# Altium footprint library rohm-packages.PcbLib: 7 footprints
Each footprint in its own frame and in the unit in brackets; x right, y up, seen from the top. Pads: shape width x height; smd on the part's side, far side on the other; paste and mask are expansions set on the pad; w line width, h text height; cw(c..) or ccw(c..) is an arc to the next point about the centre after c.
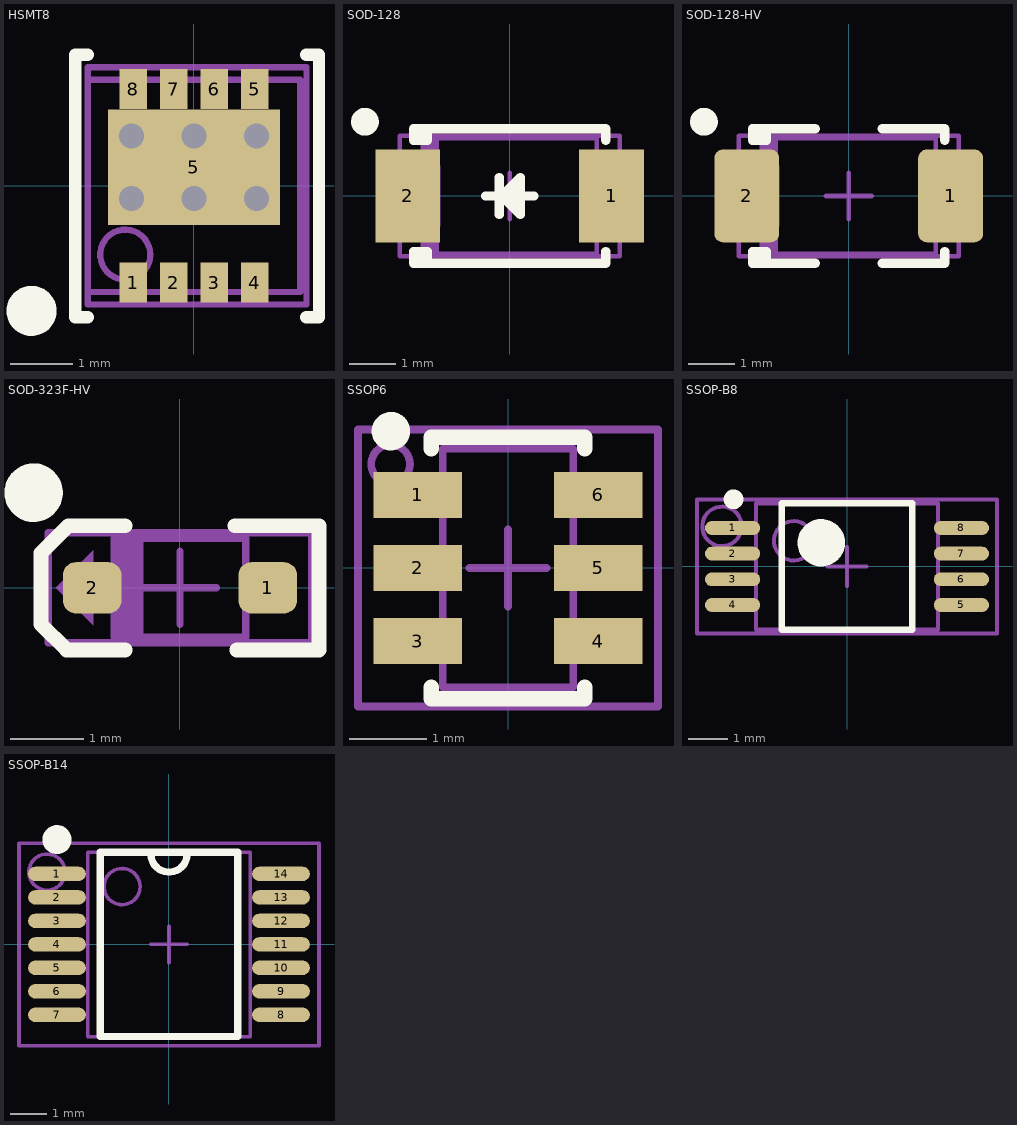
[diagram p0: the footprints below, top view; thin cyan lines are the x and y axes]

## HSMT8 [mm] "8-Leads, Body 3.0x3.0mm (max), Pitch 0.65mm, IPC Medium Density"
height 0.8
pads (9):
  rect 0.44x0.64 smd: 1(-0.975,-1.55) 2(-0.325,-1.55) 3(0.325,-1.55) 4(0.975,-1.55) 5(0.975,1.55) 6(0.325,1.55) 7(-0.325,1.55) 8(-0.975,1.55)
  rect 2.75x1.85 smd: 5(0,0.3)
via -1,0.8 diameter 0.7 hole 0.4
via -1,-0.2 diameter 0.7 hole 0.4
via 1,-0.2 diameter 0.7 hole 0.4
via 0,0.8 diameter 0.7 hole 0.4
via 1,0.8 diameter 0.7 hole 0.4
via 0,-0.2 diameter 0.7 hole 0.4
Top Overlay:
  circle w0.4: c-2.6,-2 r0.2
  lines w0.2: -1.7,-2.1 -1.9,-2.1 -1.9,2.1 -1.7,2.1 ; 1.8,-2.1 2,-2.1 2,2.1 1.8,2.1
Mechanical 13:
  lines w0.1: -0.5,0 0.5,0 ; 0,-0.5 0,0.5 ; -1.7,-1.9 -1.7,1.9 1.8,1.9 1.8,-1.9 -1.7,-1.9
Mechanical 15:
  circle w0.1: c-1.1,-1.1 r0.4
  lines w0.1: -1.7,-1.7 -1.7,1.7 1.7,1.7 1.7,-1.7 -1.7,-1.7
  text ".Designator" at -2.54,0 h0.5
3D body: height 0.96, standoff 0.01, extent -1.71,-1.7 1.71,1.7

## SOD-128 [mm] "Molded Diode, 2-Leads, Body 2.6x1.6mm, IPC Medium Density"
height 1.2
pads (2):
  rect 1.4x2 smd: 1(2.2,0) 2(-2.2,0)
Top Overlay:
  circle w0.3: c-3.125,1.6 r0.15
  lines w0.2: -2.075,-1.325 -1.775,-1.325 ; -2.075,1.325 -1.775,1.325 ; -1.775,-1.45 -1.775,-1.2 -2.075,-1.2 -2.075,-1.45 2.075,-1.45 2.075,-1.2 ; -1.775,1.45 -1.775,1.2 -2.075,1.2 -2.075,1.45 2.075,1.45 2.075,1.2 ; -0.525,0 -0.225,0 ; -0.225,-0.4 -0.225,0.4 ; 0.025,-0.15 0.025,0.15 ; 0.225,0 0.525,0 ; -0.175,0 0.225,0.4 0.225,-0.4 -0.175,0
Mechanical 13:
  rectangle: -1.888,-1.25 -1.525,1.225
  lines w0.1: -0.5,0 0.5,0 ; 0,-0.5 0,0.5 ; -1.875,-1.25 1.875,-1.25 ; -1.875,-1.25 -1.875,1.25 1.875,1.25 1.875,-1.25 ; -1.875,-1.25 1.875,-1.25
Mechanical 15:
  region: -1.5,-0.65 -2.15,0 -1.5,0.65
  lines w0.1: -2.375,-1.3 -2.375,1.3 2.375,1.3 2.375,-1.3 -2.375,-1.3
  text ".Designator" at -1,-0.3 h0.8
3D body: height 1.1, standoff -0.01, extent -2.5,-1.35 2.5,1.35

## SOD-128-HV [mm] "Molded Diode, 2-Leads, Body 2.6x1.6mm, IPC Medium Density"
height 1.2
pads (2):
  rrect25% 1.4x2 smd: 1(2.2,0) 2(-2.2,0)
Top Overlay:
  circle w0.3: c-3.125,1.6 r0.15
  lines w0.2: -2.075,-1.325 -1.775,-1.325 ; -2.075,1.325 -1.775,1.325 ; -1.775,-1.45 -1.775,-1.2 -2.075,-1.2 -2.075,-1.45 -0.725,-1.45 ; -1.775,1.45 -1.775,1.2 -2.075,1.2 -2.075,1.45 -0.725,1.45 ; 0.725,-1.45 2.075,-1.45 2.075,-1.2 ; 0.725,1.45 2.075,1.45 2.075,1.2
Mechanical 13:
  rectangle: -1.888,-1.25 -1.525,1.225
  lines w0.1: -0.5,0 0.5,0 ; 0,-0.5 0,0.5 ; -1.875,-1.25 1.875,-1.25 ; -1.875,-1.25 -1.875,1.25 1.875,1.25 1.875,-1.25 ; -1.875,-1.25 1.875,-1.25
Mechanical 15:
  region: -1.5,-0.65 -2.15,0 -1.5,0.65
  lines w0.1: -2.375,-1.3 2.375,-1.3 2.375,1.3 -2.375,1.3 -2.375,-1.3
  text ".Designator" at -1,-0.3 h0.8
3D body: height 1.1, standoff -0.01, extent -2.5,-1.35 2.5,1.35

## SOD-323F-HV [mm] "Molded Diode, 2-Leads, Flat - High Voltage"
height 0.7
pads (2):
  rrect50% 0.8x0.7 smd: 1(1.2,0) 2(-1.2,0)
Top Overlay:
  circle w0.4: c-2,1.3 r0.2
  lines w0.2: -0.75,-0.85 -1.55,-0.85 -1.9,-0.5 -1.9,0.475 -1.525,0.85 -0.75,0.85 ; 0.75,0.85 1.9,0.85 1.9,-0.85 0.775,-0.85
Mechanical 13:
  rectangle: -0.9,-0.675 -0.5,0.65
  lines w0.1: -0.5,0 0.5,0 ; 0,-0.5 0,0.5 ; -0.9,-0.675 -0.9,0.675 0.9,0.675 0.9,-0.675 -0.9,-0.675
Mechanical 15:
  region: -1.188,-0.512 -1.7,0 -1.187,0.513
  lines w0.1: -1.8,-0.75 -1.8,0.75 1.8,0.75 1.8,-0.75 -1.8,-0.75
  text ".Designator" at -1,-0.3 h0.8
3D body: height 0.79, standoff -0.08, extent -1.35,-0.675 1.35,0.675

## SSOP6 [mm] "SOT23, 6-Leads, Body 3.1x3.0mm (max), Pitch 0.95mm, IPC Medium Density"
height 1.1
pads (6):
  rect 1.15x0.6 smd: 1(-1.175,0.95) 2(-1.175,0) 3(-1.175,-0.95) 4(1.175,-0.95) 5(1.175,0) 6(1.175,0.95)
Top Overlay:
  circle w0.25: c-1.522,1.778 r0.125
  lines w0.2: -1,-1.55 -1,-1.7 1,-1.7 1,-1.55 ; -1,1.55 -1,1.7 1,1.7 1,1.55
Mechanical 13:
  lines w0.1: -0.5,0 0.5,0 ; 0,-0.5 0,0.5 ; -0.85,-1.55 -0.85,1.55 0.85,1.55 0.85,-1.55 -0.85,-1.55
Mechanical 15:
  circle w0.1: c-1.526,1.35 r0.251
  lines w0.1: -1.95,-1.8 1.95,-1.8 1.95,1.8 -1.95,1.8 -1.95,-1.8
  text ".Designator" at -0.2,1.275 h0.5
3D body: height 1, standoff 0, extent -1.17,-1.46 1.17,1.46

## SSOP-B8 [mm] "TSOP, 8-Leads, Body 3.2x4.6mm (max), Pitch 0.65mm, IPC High Density"
height 1.15
pads (8):
  oval 1.4x0.35 smd: 1(-2.9,0.975) 2(-2.9,0.325) 3(-2.9,-0.325) 4(-2.9,-0.975) 5(2.9,-0.975) 6(2.9,-0.325) 7(2.9,0.325) 8(2.9,0.975)
Top Overlay:
  circle w0.25: c-2.875,1.7 r0.125
  circle w0.6: c-0.65,0.6 r0.3
  lines w0.16: -1.65,-1.6 -1.65,1.6 1.65,1.6 1.65,-1.6 -1.65,-1.6
Mechanical 13:
  circle w0.1: c-1.35,0.65 r0.5
  lines w0.1: -0.5,0 0.5,0 ; 0,-0.5 0,0.5 ; -2.3,-1.6 -2.3,1.6 2.3,1.6 2.3,-1.6 -2.3,-1.6
Mechanical 15:
  circle w0.1: c-3.167,1.016 r0.5
  lines w0.1: -3.8,-1.7 -3.8,1.7 3.8,1.7 3.8,-1.7 -3.8,-1.7
  text ".Designator" at 1.241,-1.3 h0.5
3D body: height 1.24, standoff -0.01, extent -3.228,-1.55 3.228,1.55

## SSOP-B14 [mm] "TSOP, 14-Leads, Body 5.1x4.5mm (max), Pitch 0.65mm, IPC Medium Density"
height 1.2
pads (14):
  oval 1.6x0.4 smd: 1(-3.1,1.95) 2(-3.1,1.3) 3(-3.1,0.65) 4(-3.1,0) 5(-3.1,-0.65) 6(-3.1,-1.3) 7(-3.1,-1.95) 8(3.1,-1.95) 9(3.1,-1.3) 10(3.1,-0.65) 11(3.1,0) 12(3.1,0.65) 13(3.1,1.3) 14(3.1,1.95)
Top Overlay:
  circle w0.4: c-3.1,2.9 r0.2
  lines w0.2: -0.5,2.5 ccw(c0,2.5) 0.5,2.5 ; -1.9,-2.55 -1.9,2.55 1.9,2.55 1.9,-2.55 -1.9,-2.55
Mechanical 13:
  circle w0.1: c-1.3,1.6 r0.5
  lines w0.1: -0.5,0 0.5,0 ; 0,-0.5 0,0.5 ; -2.25,-2.55 -2.25,2.55 2.25,2.55 2.25,-2.55 -2.25,-2.55
Mechanical 15:
  circle w0.1: c-3.375,2 r0.5
  lines w0.1: -4.15,-2.8 -4.15,2.8 4.15,2.8 4.15,-2.8 -4.15,-2.8
  text ".Designator" at -1.613,-0.854 h0.5
3D body: height 0.98, standoff -0.02, extent -3.21,-2.5 3.21,2.5